# Altium footprint library SPST_Relay.PcbLib: 6 footprints
Each footprint in its own frame and in the unit in brackets; x right, y up, seen from the top. Pads: shape width x height; smd on the part's side, far side on the other; paste and mask are expansions set on the pad; w line width, h text height; cw(c..) or ccw(c..) is an arc to the next point about the centre after c.
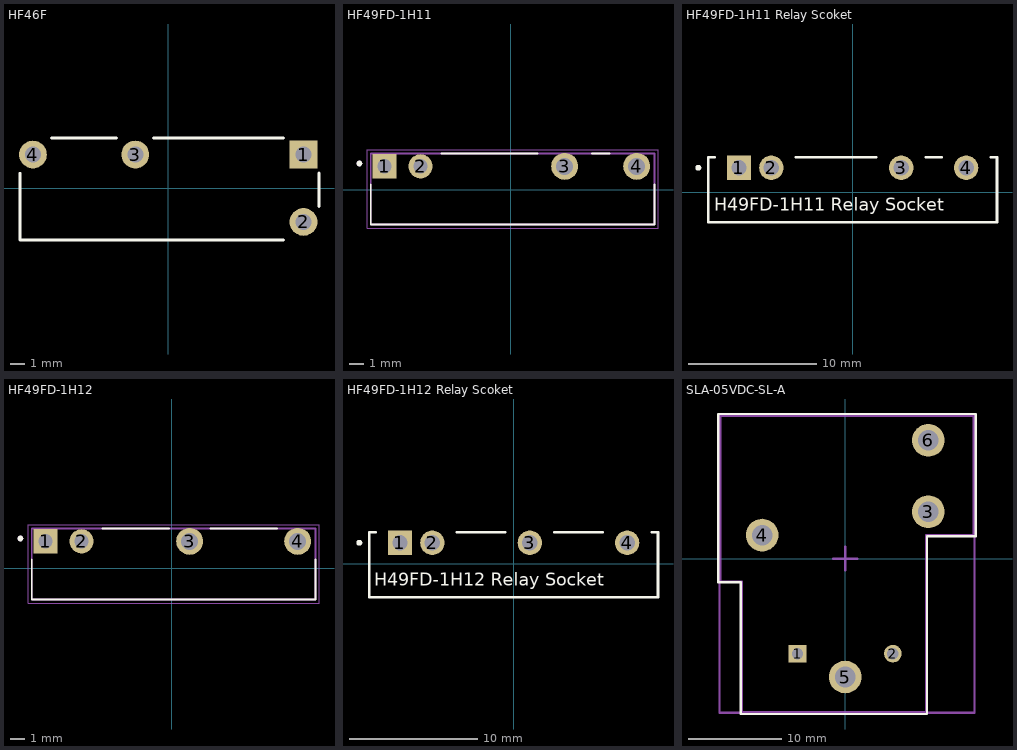
[diagram p0: the footprints below, top view; thin cyan lines are the x and y axes]

## HF46F [mm]
pads (4):
  rect 1.9x1.9 hole 1.1: 1(9.25,2.3)
  round 1.9 hole 1.1: 2(9.25,-2.3) 3(-2.25,2.3) 4(-9.25,2.3)
Top Overlay:
  lines w0.2: -10.139,1.023 -10.139,-3.55 7.887,-3.55 ; -7.98,3.443 -3.535,3.443 ; -0.995,3.443 7.895,3.443 ; 10.308,-1.256 10.308,1.03
Top Designator:
  text ".Designator" at -5.998,-0.4 h1.2
3D body "relay HF46F.step": height 15.97, standoff -3.03, extent -10.213,-3.652 10.287,3.398

## HF49FD-1H11 [mm]
pads (4):
  rect 1.7x1.7 hole 1: 1(-8.89,1.651)
  round 1.7 hole 1: 2(-6.35,1.651)
  round 1.9 hole 1.2: 3(3.81,1.651) 4(8.89,1.651)
Top Overlay:
  circle w0.2: c-10.66,1.851 r0.1
  lines w0.127: -9.86,0.381 -9.86,-2.449 10.14,-2.449 10.14,0.381 ; -4.89,2.551 1.91,2.551 ; 5.715,2.551 6.985,2.551
Top Designator:
  text ".Designator" at -5.998,-0.4 h1.2
Mechanical 13:
  circle w0.2: c-10.66,1.851 r0.1
  lines w0.127: -9.86,-2.449 10.14,-2.449 10.14,2.551 -9.86,2.551 -9.86,-2.449
Mechanical 15:
  lines w0.05: -10.11,-2.699 10.39,-2.699 10.39,2.801 -10.11,2.801 -10.11,-2.699
3D body "HF49FD[1].stp": height 13.47, standoff -2.53, extent -9.873,-2.373 10.127,2.627

## HF49FD-1H11 Relay Scoket [mm]
pads (4):
  rect 1.9x1.9 hole 1.2: 1(-8.89,1.905)
  round 1.9 hole 1.2: 2(-6.35,1.905) 3(3.81,1.905) 4(8.89,1.905)
Top Overlay:
  circle w0.254: c-12.065,1.905 r0.105
  lines w0.2: -10.795,2.735 -11.3,2.735 -11.3,-2.365 11.3,-2.365 11.3,2.735 10.795,2.735 ; -4.445,2.735 -0.635,2.735 1.846,2.735 ; 5.715,2.735 6.985,2.735
  text "H49FD-1H11 Relay Socket" at -10.82,-1.462 h1
Top Designator:
  text ".Designator" at -5.998,-0.4 h1.2
3D body "Relay Socket-01 (1).stp": height 14.27, standoff -3.03, extent -11.4,-2.246 11.4,2.754

## HF49FD-1H12 [mm]
pads (4):
  rect 1.7x1.7 hole 1: 1(-8.89,1.905)
  round 1.7 hole 1: 2(-6.35,1.905)
  round 1.9 hole 1.2: 3(1.27,1.905) 4(8.89,1.905)
Top Overlay:
  circle w0.2: c-10.66,2.105 r0.1
  lines w0.127: -9.86,0.635 -9.86,-2.195 10.14,-2.195 10.14,0.635 ; -4.89,2.805 -0.19,2.805 ; 2.73,2.805 7.43,2.805
Top Designator:
  text ".Designator" at -5.998,-0.4 h1.2
Mechanical 13:
  circle w0.2: c-10.66,2.105 r0.1
  lines w0.127: -9.86,-2.195 -9.86,2.805 10.14,2.805 10.14,-2.195 -9.86,-2.195
Mechanical 15:
  lines w0.05: -10.11,-2.445 -10.11,3.055 10.39,3.055 10.39,-2.445 -10.11,-2.445
3D body "005-1H12T--3DModel-STEP-56544.STEP": height 13.47, standoff -2.72, extent -9.84,-2.159 10.16,2.841

## HF49FD-1H12 Relay Scoket [mm]
pads (4):
  rect 1.9x1.9 hole 1.2: 1(-8.89,1.651)
  round 1.9 hole 1.2: 2(-6.35,1.651) 3(1.27,1.651) 4(8.89,1.651)
Top Overlay:
  circle w0.254: c-12.065,1.651 r0.105
  lines w0.2: -10.795,2.481 -11.3,2.481 -11.3,-2.619 11.3,-2.619 11.3,2.481 10.795,2.481 ; -4.445,2.481 -0.635,2.481 ; 3.175,2.481 6.985,2.481
  text "H49FD-1H12 Relay Socket" at -10.903,-1.716 h1
Top Designator:
  text ".Designator" at -5.961,-0.428 h1.2
3D body "Relay Socket-01.stp": height 14.27, standoff -3.03, extent -11.39,-2.549 11.41,2.451

## SLA-05VDC-SL-A [mm]
pads (6):
  rect 1.9x1.9 hole 1.2: 1(-5.1,-10.175)
  round 1.9 hole 1.2: 2(5.1,-10.175)
  round 3.5 hole 2.2: 3(8.9,5.025) 4(-8.9,2.525) 5(0,-12.675) 6(8.9,12.675)
Top Overlay:
  lines w0.254: -13.589,-2.54 -11.176,-2.54 -11.176,-16.637 8.763,-16.637 8.763,2.413 13.97,2.413 13.97,15.494 -13.589,15.494 -13.589,-2.54
Top Designator:
  text ".Designator" at -5.998,-0.4 h1.2
Mechanical 13:
  lines w0.152: -13.335,-2.413 -11.049,-2.413 -11.049,-16.383 8.636,-16.383 8.636,2.54 13.716,2.54 13.716,15.24 -13.335,15.24 -13.335,-2.413
Mechanical 15:
  lines w0.254: -1.27,0 1.27,0 ; 0,-1.27 0,1.27 ; -13.462,-16.51 13.843,-16.51 13.843,15.367 -13.462,15.367 -13.462,-16.51
3D body "Relay - SLA-05VDC-SL-C.stp": height 20.12, standoff -3.4, extent -13.373,-16.36 13.704,15.237